# Altium footprint library ps2012gt2.PcbLib: 1 footprints
Each footprint in its own frame and in the unit in brackets; x right, y up, seen from the top. Pads: shape width x height; smd on the part's side, far side on the other; paste and mask are expansions set on the pad; w line width, h text height; cw(c..) or ccw(c..) is an arc to the next point about the centre after c.
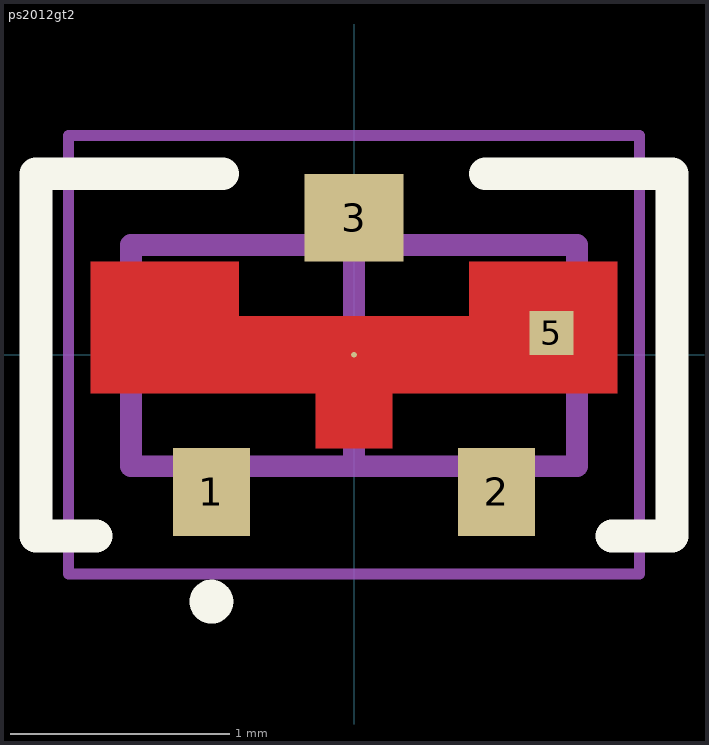
[diagram p0: the footprint, top view; thin cyan lines are the x and y axes]

## ps2012gt2 [mm] "DFN, 3-Leads, Body 1,25x2,00mm, Pitch 0,65mm, IPC Low Density"
height 0.4
pads (5):
  rect 0.35x0.4 smd: 1(-0.65,-0.625) 2(0.65,-0.625)
  rect 0.45x0.4 smd: 3(0,0.625)
  round 0.025 smd: 4(0,0)
  rect 0.2x0.2 smd paste-10: 5(0.9,0.1)
Top Layer:
  region: -1.2,-0.175 -1.2,0.425 -0.525,0.425 -0.525,0.175 0.525,0.175 0.525,0.425 1.2,0.425 1.2,-0.175 0.175,-0.175 0.175,-0.425 -0.175,-0.425 -0.175,-0.175
Top Overlay:
  circle w0.1: c-0.65,-1.125 r0.05
  lines w0.15: -1.175,-0.825 -1.45,-0.825 -1.45,0.825 -0.6,0.825 ; 0.6,0.825 1.45,0.825 1.45,-0.825 1.175,-0.825
Top Paste:
  region: -1.125,0.35 -0.6,0.35 -0.6,-0.1 -1.125,-0.1
  region: 1.125,0.35 0.6,0.35 0.6,-0.1 1.125,-0.1
  region: 0.425,0.1 -0.425,0.1 -0.425,-0.1 0.425,-0.1
  region: 0.1,-0.175 -0.1,-0.175 -0.1,-0.375 0.1,-0.375
Mechanical 13:
  lines w0.1: -1.016,-0.508 1.016,-0.508 1.016,0.5 -1.016,0.5 -1.016,-0.508
Mechanical 15:
  lines w0.05: -1.3,-1 1.3,-1 1.3,1 -1.3,1 -1.3,-1
  lines w0.1: -0.5,0 0.5,0 ; 0,-0.5 0,0.5
3D body: height 0.4, standoff 0, extent -1.05,-0.65 1.05,0.65